# Altium integrated library TLV3502AID.IntLib: 1 symbol
Pins are listed as number, name and electrical type; pins without a type are passive.

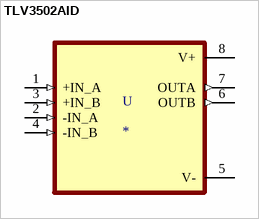
[diagram p0: symbol TLV3502AID]

## TLV3502AID
designator U
4.5ns Rail-to-Rail Comparator; MF: Texas Instruments; MP: TLV3502AID; Value: *; SnapEDA_Link: https://www.snapeda.com/parts/TLV3502AID/Texas%20Instruments/view-part/85753/?ref=snap; Arrow_Electronics-Purchase-URL: https://snapeda.com/shop?store=Arrow+Electronics&id=85753; Texas_Instruments-Purchase-URL: https://snapeda.com/shop?store=Texas+Instruments&id=85753; Mouser-Purchase-URL: https://snapeda.com/shop?store=Mouser&id=85753; Availability: Unavailable; Price: None; Package: SOIC-8 Texas Instruments; DigiKey-Purchase-URL: https://snapeda.com/shop?store=DigiKey&id=85753
footprint SOIC127P599X175-8N
pins: 1 +IN_A (in), 2 -IN_A (in), 3 +IN_B (in), 4 -IN_B (in), 5 V- (power), 6 OUTB (out), 7 OUTA (out), 8 V+ (power)